# Altium integrated library Cypress Memory Static RAM.IntLib: 171 symbols (part 7 of 7)
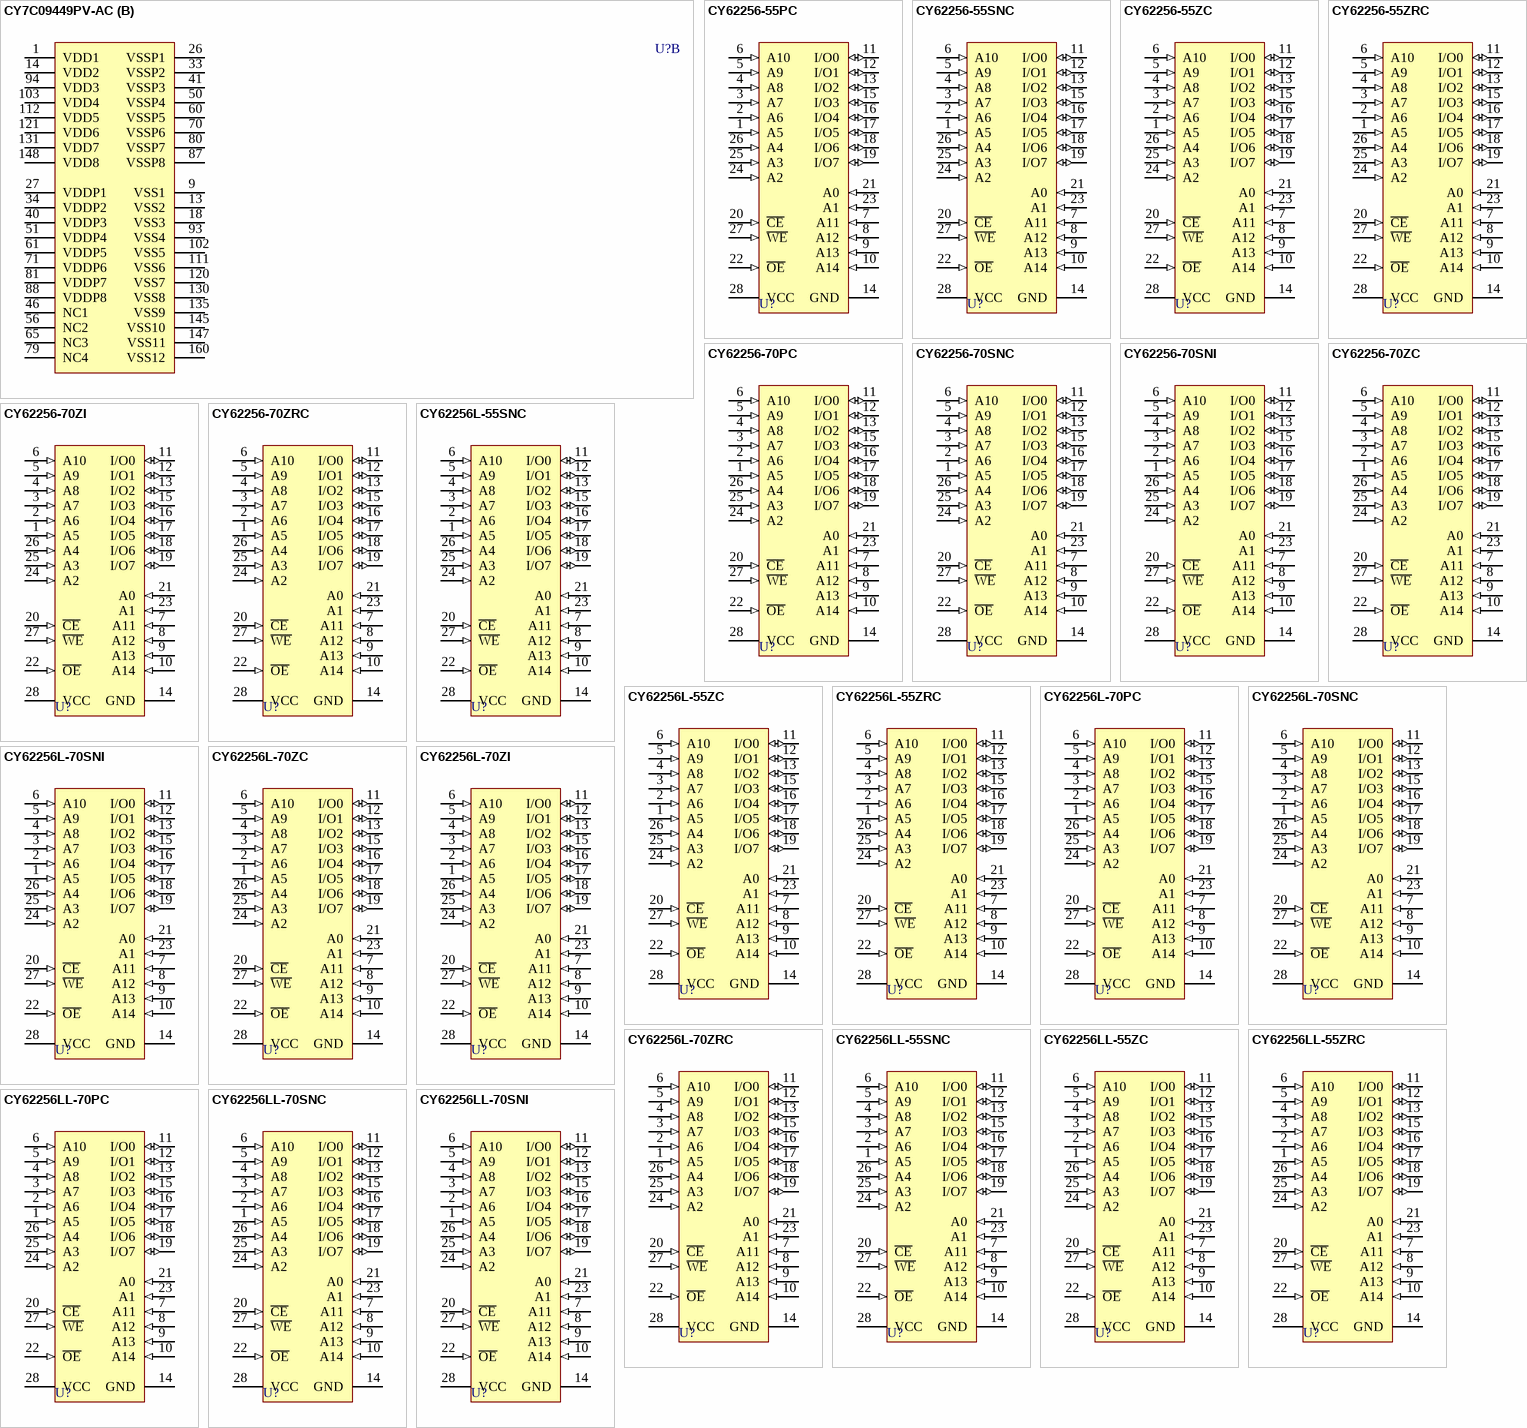
[diagram p31: symbols CY7C09449PV-AC to CY62256LL-70SNI]

## CY62256L-70ZC
designator U?
32K x 8 Static RAM; Published: 11-Dec-2002; LatestRevisionDate: 16-Oct-2006; LatestRevisionNote: Footprint pinout fixed.; DatasheetVersion: 26-Nov-1997; PackageVersion: revG, Nov-2000; PackageReference: Z28; Publisher: Altium Limited; PackageDescription: 28-Pin Thin Small Outline Package Type 1 - 8 x 13.4 mm; ComponentLink1Description: Manufacturer Link; ComponentLink1URL: http://www.cypress.com/; ComponentLink2Description: Datasheet; ComponentLink2URL: http://www.cypress.com/portal/server.pt/gateway/PTARGS_0_2_1524_209_259_43/http%3B/sjapp20.mis.cypress.com%3B7001/publishedcontent/publish/design_resources/datasheets/contents/cy62256_5.pdf
footprint Z28_N (TSSOP, 28-Leads, Body 8x11.8mm, Pitch 0.55mm, Unconventional Pinout, IPC Medium Density)
footprint Z28_L (TSSOP, 28-Leads, Body 8x11.8mm, Pitch 0.55mm, Unconventional Pinout, IPC High Density)
footprint Z28_M (TSSOP, 28-Leads, Body 8x11.8mm, Pitch 0.55mm, Unconventional Pinout, IPC Low Density)
3D model Z28 (28-Pin Thin Small Outline Package Type 1 - 8 x 13.4 mm)
pins: 1 A5 (in), 2 A6 (in), 3 A7 (in), 4 A8 (in), 5 A9 (in), 6 A10 (in), 7 A11 (in), 8 A12 (in), 9 A13 (in), 10 A14 (in), 11 I/O0 (io), 12 I/O1 (io), 13 I/O2 (io), 14 GND (power), 15 I/O3 (io), 16 I/O4 (io), 17 I/O5 (io), 18 I/O6 (io), 19 I/O7 (io), 20 ~{CE} (in), 21 A0 (in), 22 ~{OE} (in), 23 A1 (in), 24 A2 (in), 25 A3 (in), 26 A4 (in), 27 ~{WE} (in), 28 VCC (power)

## CY62256L-70ZI
designator U?
32K x 8 Static RAM; Published: 11-Dec-2002; LatestRevisionDate: 16-Oct-2006; LatestRevisionNote: Footprint pinout fixed.; DatasheetVersion: 26-Nov-1997; PackageVersion: revG, Nov-2000; PackageReference: Z28; Publisher: Altium Limited; PackageDescription: 28-Pin Thin Small Outline Package Type 1 - 8 x 13.4 mm; ComponentLink1Description: Manufacturer Link; ComponentLink1URL: http://www.cypress.com/; ComponentLink2Description: Datasheet; ComponentLink2URL: http://www.cypress.com/portal/server.pt/gateway/PTARGS_0_2_1524_209_259_43/http%3B/sjapp20.mis.cypress.com%3B7001/publishedcontent/publish/design_resources/datasheets/contents/cy62256_5.pdf
footprint Z28_N (TSSOP, 28-Leads, Body 8x11.8mm, Pitch 0.55mm, Unconventional Pinout, IPC Medium Density)
footprint Z28_L (TSSOP, 28-Leads, Body 8x11.8mm, Pitch 0.55mm, Unconventional Pinout, IPC High Density)
footprint Z28_M (TSSOP, 28-Leads, Body 8x11.8mm, Pitch 0.55mm, Unconventional Pinout, IPC Low Density)
3D model Z28 (28-Pin Thin Small Outline Package Type 1 - 8 x 13.4 mm)
pins: 1 A5 (in), 2 A6 (in), 3 A7 (in), 4 A8 (in), 5 A9 (in), 6 A10 (in), 7 A11 (in), 8 A12 (in), 9 A13 (in), 10 A14 (in), 11 I/O0 (io), 12 I/O1 (io), 13 I/O2 (io), 14 GND (power), 15 I/O3 (io), 16 I/O4 (io), 17 I/O5 (io), 18 I/O6 (io), 19 I/O7 (io), 20 ~{CE} (in), 21 A0 (in), 22 ~{OE} (in), 23 A1 (in), 24 A2 (in), 25 A3 (in), 26 A4 (in), 27 ~{WE} (in), 28 VCC (power)

## CY62256L-70ZRC
designator U?
32K x 8 Static RAM; Published: 11-Dec-2002; LatestRevisionDate: 16-Oct-2006; LatestRevisionNote: Footprint pinout fixed.; DatasheetVersion: 26-Nov-1997; PackageVersion: revG, Nov-2000; PackageReference: ZR28; Publisher: Altium Limited; PackageDescription: 28-Pin Reverse Type 1Thin Small Outline Package - 8 x 13.4 mm; ComponentLink1Description: Manufacturer Link; ComponentLink1URL: http://www.cypress.com/; ComponentLink2Description: Datasheet; ComponentLink2URL: http://www.cypress.com/portal/server.pt/gateway/PTARGS_0_2_1524_209_259_43/http%3B/sjapp20.mis.cypress.com%3B7001/publishedcontent/publish/design_resources/datasheets/contents/cy62256_5.pdf
footprint ZR28_N (TSSOP, 28-Leads, Body 8x11.8mm, Pitch 0.55mm, Reverse Pinning, IPC Medium Density)
footprint ZR28_L (TSSOP, 28-Leads, Body 8x11.8mm, Pitch 0.55mm, Reverse Pinning, IPC High Density)
footprint ZR28_M (TSSOP, 28-Leads, Body 8x11.8mm, Pitch 0.55mm, Reverse Pinning, IPC Low Density)
3D model Z28 (28-Pin Reverse Type 1Thin Small Outline Package - 8 x 13.4 mm)
pins: 1 A5 (in), 2 A6 (in), 3 A7 (in), 4 A8 (in), 5 A9 (in), 6 A10 (in), 7 A11 (in), 8 A12 (in), 9 A13 (in), 10 A14 (in), 11 I/O0 (io), 12 I/O1 (io), 13 I/O2 (io), 14 GND (power), 15 I/O3 (io), 16 I/O4 (io), 17 I/O5 (io), 18 I/O6 (io), 19 I/O7 (io), 20 ~{CE} (in), 21 A0 (in), 22 ~{OE} (in), 23 A1 (in), 24 A2 (in), 25 A3 (in), 26 A4 (in), 27 ~{WE} (in), 28 VCC (power)

## CY62256LL-55SNC
designator U?
32K x 8 Static RAM; Published: 11-Dec-2002; LatestRevisionDate: 13-Apr-2006; LatestRevisionNote: IPC-7351 Footprint Added.; DatasheetVersion: 26-Nov-1997; PackageVersion: Nov-1997; PackageReference: S22; Publisher: Altium Limited; PackageDescription: 28-Pin Plastic Small Outline Integrated Circuit 1.27 mm Pitch; Code_JEDEC: MO-120-AB; ComponentLink1Description: Manufacturer Link; ComponentLink1URL: http://www.cypress.com/; ComponentLink2Description: Datasheet; ComponentLink2URL: http://www.cypress.com/portal/server.pt/gateway/PTARGS_0_2_1524_209_259_43/http%3B/sjapp20.mis.cypress.com%3B7001/publishedcontent/publish/design_resources/datasheets/contents/cy62256_5.pdf
footprint S22_N (SOIC, 28-Leads, Body 18.4x7.5mm, Pitch 1.27mm, IPC Medium Density)
footprint S22_L (SOIC, 28-Leads, Body 18.4x7.5mm, Pitch 1.27mm, IPC High Density)
footprint S22_M (SOIC, 28-Leads, Body 18.4x7.5mm, Pitch 1.27mm, IPC Low Density)
3D model S22 (28-Pin Plastic Small Outline Integrated Circuit 1.27 mm Pitch)
pins: 1 A5 (in), 2 A6 (in), 3 A7 (in), 4 A8 (in), 5 A9 (in), 6 A10 (in), 7 A11 (in), 8 A12 (in), 9 A13 (in), 10 A14 (in), 11 I/O0 (io), 12 I/O1 (io), 13 I/O2 (io), 14 GND (power), 15 I/O3 (io), 16 I/O4 (io), 17 I/O5 (io), 18 I/O6 (io), 19 I/O7 (io), 20 ~{CE} (in), 21 A0 (in), 22 ~{OE} (in), 23 A1 (in), 24 A2 (in), 25 A3 (in), 26 A4 (in), 27 ~{WE} (in), 28 VCC (power)

## CY62256LL-55ZC
designator U?
32K x 8 Static RAM; Published: 11-Dec-2002; LatestRevisionDate: 16-Oct-2006; LatestRevisionNote: Footprint pinout fixed.; DatasheetVersion: 26-Nov-1997; PackageVersion: revG, Nov-2000; PackageReference: Z28; Publisher: Altium Limited; PackageDescription: 28-Pin Thin Small Outline Package Type 1 - 8 x 13.4 mm; ComponentLink1Description: Manufacturer Link; ComponentLink1URL: http://www.cypress.com/; ComponentLink2Description: Datasheet; ComponentLink2URL: http://www.cypress.com/portal/server.pt/gateway/PTARGS_0_2_1524_209_259_43/http%3B/sjapp20.mis.cypress.com%3B7001/publishedcontent/publish/design_resources/datasheets/contents/cy62256_5.pdf
footprint Z28_N (TSSOP, 28-Leads, Body 8x11.8mm, Pitch 0.55mm, Unconventional Pinout, IPC Medium Density)
footprint Z28_L (TSSOP, 28-Leads, Body 8x11.8mm, Pitch 0.55mm, Unconventional Pinout, IPC High Density)
footprint Z28_M (TSSOP, 28-Leads, Body 8x11.8mm, Pitch 0.55mm, Unconventional Pinout, IPC Low Density)
3D model Z28 (28-Pin Thin Small Outline Package Type 1 - 8 x 13.4 mm)
pins: 1 A5 (in), 2 A6 (in), 3 A7 (in), 4 A8 (in), 5 A9 (in), 6 A10 (in), 7 A11 (in), 8 A12 (in), 9 A13 (in), 10 A14 (in), 11 I/O0 (io), 12 I/O1 (io), 13 I/O2 (io), 14 GND (power), 15 I/O3 (io), 16 I/O4 (io), 17 I/O5 (io), 18 I/O6 (io), 19 I/O7 (io), 20 ~{CE} (in), 21 A0 (in), 22 ~{OE} (in), 23 A1 (in), 24 A2 (in), 25 A3 (in), 26 A4 (in), 27 ~{WE} (in), 28 VCC (power)

## CY62256LL-55ZRC
designator U?
32K x 8 Static RAM; Published: 11-Dec-2002; LatestRevisionDate: 16-Oct-2006; LatestRevisionNote: Footprint pinout fixed.; DatasheetVersion: 26-Nov-1997; PackageVersion: revG, Nov-2000; PackageReference: ZR28; Publisher: Altium Limited; PackageDescription: 28-Pin Reverse Type 1Thin Small Outline Package - 8 x 13.4 mm; ComponentLink1Description: Manufacturer Link; ComponentLink1URL: http://www.cypress.com/; ComponentLink2Description: Datasheet; ComponentLink2URL: http://www.cypress.com/portal/server.pt/gateway/PTARGS_0_2_1524_209_259_43/http%3B/sjapp20.mis.cypress.com%3B7001/publishedcontent/publish/design_resources/datasheets/contents/cy62256_5.pdf
footprint ZR28_N (TSSOP, 28-Leads, Body 8x11.8mm, Pitch 0.55mm, Reverse Pinning, IPC Medium Density)
footprint ZR28_L (TSSOP, 28-Leads, Body 8x11.8mm, Pitch 0.55mm, Reverse Pinning, IPC High Density)
footprint ZR28_M (TSSOP, 28-Leads, Body 8x11.8mm, Pitch 0.55mm, Reverse Pinning, IPC Low Density)
3D model Z28 (28-Pin Reverse Type 1Thin Small Outline Package - 8 x 13.4 mm)
pins: 1 A5 (in), 2 A6 (in), 3 A7 (in), 4 A8 (in), 5 A9 (in), 6 A10 (in), 7 A11 (in), 8 A12 (in), 9 A13 (in), 10 A14 (in), 11 I/O0 (io), 12 I/O1 (io), 13 I/O2 (io), 14 GND (power), 15 I/O3 (io), 16 I/O4 (io), 17 I/O5 (io), 18 I/O6 (io), 19 I/O7 (io), 20 ~{CE} (in), 21 A0 (in), 22 ~{OE} (in), 23 A1 (in), 24 A2 (in), 25 A3 (in), 26 A4 (in), 27 ~{WE} (in), 28 VCC (power)

## CY62256LL-70PC
designator U?
32K x 8 Static RAM; Published: 11-Dec-2002; LatestRevisionDate: 04-Mar-2005; LatestRevisionNote: Stylized 3D Model Added.; DatasheetVersion: 26-Nov-1997; PackageVersion: Nov-1997; PackageReference: P15; Publisher: Altium Limited; PackageDescription: DIP, Molded; 28 Leads; Row Spacing 15.24 mm; Pitch 2.54 mm; ComponentLink1Description: Manufacturer Link; ComponentLink1URL: http://www.cypress.com/; ComponentLink2Description: Datasheet; ComponentLink2URL: http://www.cypress.com/portal/server.pt/gateway/PTARGS_0_2_1524_209_259_43/http%3B/sjapp20.mis.cypress.com%3B7001/publishedcontent/publish/design_resources/datasheets/contents/cy62256_5.pdf
footprint P15 (DIP, Molded; 28 Leads; Row Spacing 15.24 mm; Pitch 2.54 mm)
3D model P15 (DIP, Molded; 28 Leads; Row Spacing 15.24 mm; Pitch 2.54 mm)
pins: 1 A5 (in), 2 A6 (in), 3 A7 (in), 4 A8 (in), 5 A9 (in), 6 A10 (in), 7 A11 (in), 8 A12 (in), 9 A13 (in), 10 A14 (in), 11 I/O0 (io), 12 I/O1 (io), 13 I/O2 (io), 14 GND (power), 15 I/O3 (io), 16 I/O4 (io), 17 I/O5 (io), 18 I/O6 (io), 19 I/O7 (io), 20 ~{CE} (in), 21 A0 (in), 22 ~{OE} (in), 23 A1 (in), 24 A2 (in), 25 A3 (in), 26 A4 (in), 27 ~{WE} (in), 28 VCC (power)

## CY62256LL-70SNC
designator U?
32K x 8 Static RAM; Published: 11-Dec-2002; LatestRevisionDate: 13-Apr-2006; LatestRevisionNote: IPC-7351 Footprint Added.; DatasheetVersion: 26-Nov-1997; PackageVersion: Nov-1997; PackageReference: S22; Publisher: Altium Limited; PackageDescription: 28-Pin Plastic Small Outline Integrated Circuit 1.27 mm Pitch; Code_JEDEC: MO-120-AB; ComponentLink1Description: Manufacturer Link; ComponentLink1URL: http://www.cypress.com/; ComponentLink2Description: Datasheet; ComponentLink2URL: http://www.cypress.com/portal/server.pt/gateway/PTARGS_0_2_1524_209_259_43/http%3B/sjapp20.mis.cypress.com%3B7001/publishedcontent/publish/design_resources/datasheets/contents/cy62256_5.pdf
footprint S22_N (SOIC, 28-Leads, Body 18.4x7.5mm, Pitch 1.27mm, IPC Medium Density)
footprint S22_L (SOIC, 28-Leads, Body 18.4x7.5mm, Pitch 1.27mm, IPC High Density)
footprint S22_M (SOIC, 28-Leads, Body 18.4x7.5mm, Pitch 1.27mm, IPC Low Density)
3D model S22 (28-Pin Plastic Small Outline Integrated Circuit 1.27 mm Pitch)
pins: 1 A5 (in), 2 A6 (in), 3 A7 (in), 4 A8 (in), 5 A9 (in), 6 A10 (in), 7 A11 (in), 8 A12 (in), 9 A13 (in), 10 A14 (in), 11 I/O0 (io), 12 I/O1 (io), 13 I/O2 (io), 14 GND (power), 15 I/O3 (io), 16 I/O4 (io), 17 I/O5 (io), 18 I/O6 (io), 19 I/O7 (io), 20 ~{CE} (in), 21 A0 (in), 22 ~{OE} (in), 23 A1 (in), 24 A2 (in), 25 A3 (in), 26 A4 (in), 27 ~{WE} (in), 28 VCC (power)

## CY62256LL-70SNI
designator U?
32K x 8 Static RAM; Published: 11-Dec-2002; LatestRevisionDate: 13-Apr-2006; LatestRevisionNote: IPC-7351 Footprint Added.; DatasheetVersion: 26-Nov-1997; PackageVersion: Nov-1997; PackageReference: S22; Publisher: Altium Limited; PackageDescription: 28-Pin Plastic Small Outline Integrated Circuit 1.27 mm Pitch; Code_JEDEC: MO-120-AB; ComponentLink1Description: Manufacturer Link; ComponentLink1URL: http://www.cypress.com/; ComponentLink2Description: Datasheet; ComponentLink2URL: http://www.cypress.com/portal/server.pt/gateway/PTARGS_0_2_1524_209_259_43/http%3B/sjapp20.mis.cypress.com%3B7001/publishedcontent/publish/design_resources/datasheets/contents/cy62256_5.pdf
footprint S22_N (SOIC, 28-Leads, Body 18.4x7.5mm, Pitch 1.27mm, IPC Medium Density)
footprint S22_L (SOIC, 28-Leads, Body 18.4x7.5mm, Pitch 1.27mm, IPC High Density)
footprint S22_M (SOIC, 28-Leads, Body 18.4x7.5mm, Pitch 1.27mm, IPC Low Density)
3D model S22 (28-Pin Plastic Small Outline Integrated Circuit 1.27 mm Pitch)
pins: 1 A5 (in), 2 A6 (in), 3 A7 (in), 4 A8 (in), 5 A9 (in), 6 A10 (in), 7 A11 (in), 8 A12 (in), 9 A13 (in), 10 A14 (in), 11 I/O0 (io), 12 I/O1 (io), 13 I/O2 (io), 14 GND (power), 15 I/O3 (io), 16 I/O4 (io), 17 I/O5 (io), 18 I/O6 (io), 19 I/O7 (io), 20 ~{CE} (in), 21 A0 (in), 22 ~{OE} (in), 23 A1 (in), 24 A2 (in), 25 A3 (in), 26 A4 (in), 27 ~{WE} (in), 28 VCC (power)

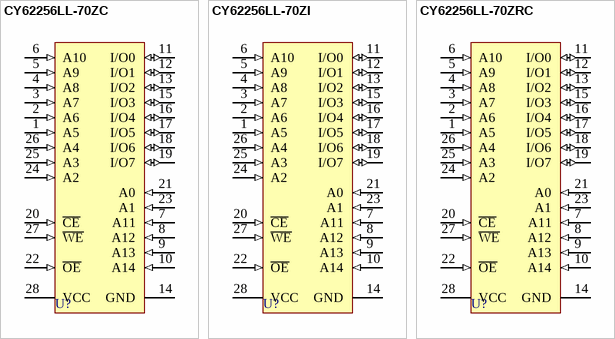
[diagram p25: symbols CY62256LL-70ZC to CY62256LL-70ZRC]

## CY62256LL-70ZC
designator U?
32K x 8 Static RAM; Published: 11-Dec-2002; LatestRevisionDate: 16-Oct-2006; LatestRevisionNote: Footprint pinout fixed.; DatasheetVersion: 26-Nov-1997; PackageVersion: revG, Nov-2000; PackageReference: Z28; Publisher: Altium Limited; PackageDescription: 28-Pin Thin Small Outline Package Type 1 - 8 x 13.4 mm; ComponentLink1Description: Manufacturer Link; ComponentLink1URL: http://www.cypress.com/; ComponentLink2Description: Datasheet; ComponentLink2URL: http://www.cypress.com/portal/server.pt/gateway/PTARGS_0_2_1524_209_259_43/http%3B/sjapp20.mis.cypress.com%3B7001/publishedcontent/publish/design_resources/datasheets/contents/cy62256_5.pdf
footprint Z28_N (TSSOP, 28-Leads, Body 8x11.8mm, Pitch 0.55mm, Unconventional Pinout, IPC Medium Density)
footprint Z28_L (TSSOP, 28-Leads, Body 8x11.8mm, Pitch 0.55mm, Unconventional Pinout, IPC High Density)
footprint Z28_M (TSSOP, 28-Leads, Body 8x11.8mm, Pitch 0.55mm, Unconventional Pinout, IPC Low Density)
3D model Z28 (28-Pin Thin Small Outline Package Type 1 - 8 x 13.4 mm)
pins: 1 A5 (in), 2 A6 (in), 3 A7 (in), 4 A8 (in), 5 A9 (in), 6 A10 (in), 7 A11 (in), 8 A12 (in), 9 A13 (in), 10 A14 (in), 11 I/O0 (io), 12 I/O1 (io), 13 I/O2 (io), 14 GND (power), 15 I/O3 (io), 16 I/O4 (io), 17 I/O5 (io), 18 I/O6 (io), 19 I/O7 (io), 20 ~{CE} (in), 21 A0 (in), 22 ~{OE} (in), 23 A1 (in), 24 A2 (in), 25 A3 (in), 26 A4 (in), 27 ~{WE} (in), 28 VCC (power)

## CY62256LL-70ZI
designator U?
32K x 8 Static RAM; Published: 11-Dec-2002; LatestRevisionDate: 16-Oct-2006; LatestRevisionNote: Footprint pinout fixed.; DatasheetVersion: 26-Nov-1997; PackageVersion: revG, Nov-2000; PackageReference: Z28; Publisher: Altium Limited; PackageDescription: 28-Pin Thin Small Outline Package Type 1 - 8 x 13.4 mm; ComponentLink1Description: Manufacturer Link; ComponentLink1URL: http://www.cypress.com/; ComponentLink2Description: Datasheet; ComponentLink2URL: http://www.cypress.com/portal/server.pt/gateway/PTARGS_0_2_1524_209_259_43/http%3B/sjapp20.mis.cypress.com%3B7001/publishedcontent/publish/design_resources/datasheets/contents/cy62256_5.pdf
footprint Z28_N (TSSOP, 28-Leads, Body 8x11.8mm, Pitch 0.55mm, Unconventional Pinout, IPC Medium Density)
footprint Z28_L (TSSOP, 28-Leads, Body 8x11.8mm, Pitch 0.55mm, Unconventional Pinout, IPC High Density)
footprint Z28_M (TSSOP, 28-Leads, Body 8x11.8mm, Pitch 0.55mm, Unconventional Pinout, IPC Low Density)
3D model Z28 (28-Pin Thin Small Outline Package Type 1 - 8 x 13.4 mm)
pins: 1 A5 (in), 2 A6 (in), 3 A7 (in), 4 A8 (in), 5 A9 (in), 6 A10 (in), 7 A11 (in), 8 A12 (in), 9 A13 (in), 10 A14 (in), 11 I/O0 (io), 12 I/O1 (io), 13 I/O2 (io), 14 GND (power), 15 I/O3 (io), 16 I/O4 (io), 17 I/O5 (io), 18 I/O6 (io), 19 I/O7 (io), 20 ~{CE} (in), 21 A0 (in), 22 ~{OE} (in), 23 A1 (in), 24 A2 (in), 25 A3 (in), 26 A4 (in), 27 ~{WE} (in), 28 VCC (power)

## CY62256LL-70ZRC
designator U?
32K x 8 Static RAM; Published: 11-Dec-2002; LatestRevisionDate: 16-Oct-2006; LatestRevisionNote: Footprint pinout fixed.; DatasheetVersion: 26-Nov-1997; PackageVersion: revG, Nov-2000; PackageReference: ZR28; Publisher: Altium Limited; PackageDescription: 28-Pin Reverse Type 1Thin Small Outline Package - 8 x 13.4 mm; ComponentLink1Description: Manufacturer Link; ComponentLink1URL: http://www.cypress.com/; ComponentLink2Description: Datasheet; ComponentLink2URL: http://www.cypress.com/portal/server.pt/gateway/PTARGS_0_2_1524_209_259_43/http%3B/sjapp20.mis.cypress.com%3B7001/publishedcontent/publish/design_resources/datasheets/contents/cy62256_5.pdf
footprint ZR28_N (TSSOP, 28-Leads, Body 8x11.8mm, Pitch 0.55mm, Reverse Pinning, IPC Medium Density)
footprint ZR28_L (TSSOP, 28-Leads, Body 8x11.8mm, Pitch 0.55mm, Reverse Pinning, IPC High Density)
footprint ZR28_M (TSSOP, 28-Leads, Body 8x11.8mm, Pitch 0.55mm, Reverse Pinning, IPC Low Density)
3D model Z28 (28-Pin Reverse Type 1Thin Small Outline Package - 8 x 13.4 mm)
pins: 1 A5 (in), 2 A6 (in), 3 A7 (in), 4 A8 (in), 5 A9 (in), 6 A10 (in), 7 A11 (in), 8 A12 (in), 9 A13 (in), 10 A14 (in), 11 I/O0 (io), 12 I/O1 (io), 13 I/O2 (io), 14 GND (power), 15 I/O3 (io), 16 I/O4 (io), 17 I/O5 (io), 18 I/O6 (io), 19 I/O7 (io), 20 ~{CE} (in), 21 A0 (in), 22 ~{OE} (in), 23 A1 (in), 24 A2 (in), 25 A3 (in), 26 A4 (in), 27 ~{WE} (in), 28 VCC (power)